# Altium footprint library CONN_TBLOCK_5P0_A.PcbLib: 45 footprints (part 1 of 3)
Each footprint in its own frame and in the unit in brackets; x right, y up, seen from the top. Pads: shape width x height; smd on the part's side, far side on the other; paste and mask are expansions set on the pad; w line width, h text height; cw(c..) or ccw(c..) is an arc to the next point about the centre after c.
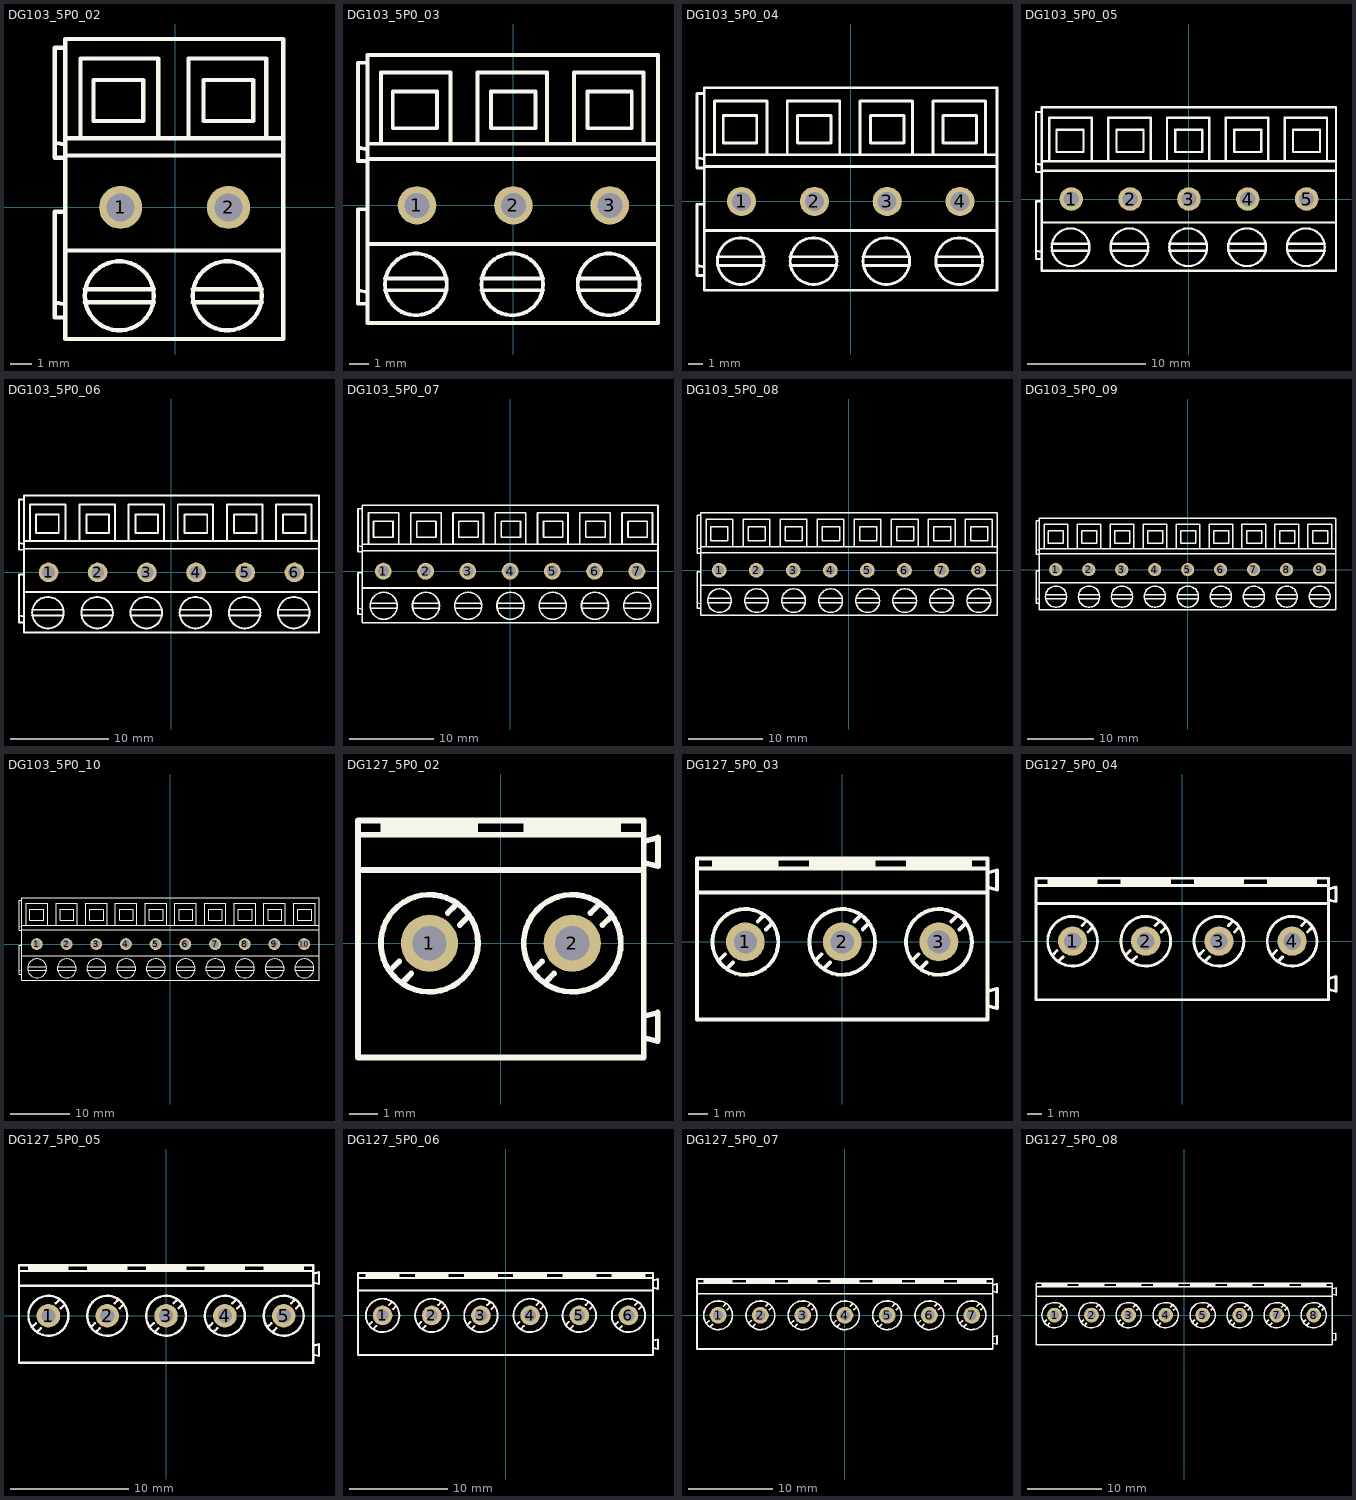
[diagram p0: the footprints below, top view; thin cyan lines are the x and y axes]

## DG103_5P0_02 [mm] "Terminal Block 45° Screw, Pitch 5mm, L15mm"
height 15
pads (2):
  round 2 / inner round 2 / far side rect 2.4x3 hole 1.3: 1(-2.54,0)
  round 2 / inner round 2 / far side oval 2.4x3 hole 1.3: 2(2.46,0)
Top Overlay:
  circle w0.2: c2.4,-4.1 r1.6
  circle w0.2: c-2.6,-4.1 r1.6
  lines w0.2: -5.6,-4.4 -5.1,-4.5 ; -5.6,3 -5.1,2.9 ; -5.1,-5.1 -5.6,-5.1 -5.6,-0.2 -5.1,-0.2 ; -5.1,-2 5,-2 ; -5.1,2.3 -5.6,2.3 -5.6,7.4 -5.1,7.4 ; -5.1,2.4 5,2.4 ; -5.1,3.2 5,3.2 ; -4.4,3.2 -4.4,6.9 -0.8,6.9 -0.8,3.2 ; -4.2,-4.4 -1,-4.4 ; -4.2,-3.8 -1,-3.8 ; 0.6,3.2 0.6,6.9 4.2,6.9 4.2,3.2 ; 0.8,-4.4 4,-4.4 ; 0.8,-3.8 4,-3.8 ; -5.1,-6.1 5,-6.1 5,7.8 -5.1,7.8 -5.1,-6.1 ; -3.8,4 -3.8,5.9 -1.5,5.9 -1.5,4 -3.8,4 ; 1.3,4 3.6,4 3.6,5.9 1.3,5.9 1.3,4
3D body "DG103-5.0-02.stp": height 15.5, standoff -3.5, extent -5.61,-6 4.94,7.8

## DG103_5P0_03 [mm] "Terminal Block 45° Screw, Pitch 5mm, L15mm"
height 15
pads (3):
  round 2 / inner round 2 / far side rect 2.4x3 hole 1.3: 1(-5,0)
  round 2 / inner round 2 / far side oval 2.4x3 hole 1.3: 2(0,0) 3(5,0)
Top Overlay:
  circle w0.2: c-5.06,-4.1 r1.6
  circle w0.2: c-0.06,-4.1 r1.6
  circle w0.2: c4.94,-4.1 r1.6
  lines w0.2: -8.06,-4.4 -7.56,-4.5 ; -8.06,3 -7.56,2.9 ; -7.56,-5.1 -8.06,-5.1 -8.06,-0.2 -7.56,-0.2 ; -7.56,-2 7.5,-2 ; -7.56,2.3 -8.06,2.3 -8.06,7.4 -7.56,7.4 ; -7.56,2.4 7.5,2.4 ; -7.56,3.2 7.5,3.2 ; -6.86,3.2 -6.86,6.9 -3.26,6.9 -3.26,3.2 ; -6.66,-4.4 -3.46,-4.4 ; -6.66,-3.8 -3.46,-3.8 ; -1.86,3.2 -1.86,6.9 1.74,6.9 1.74,3.2 ; -1.66,-4.4 1.54,-4.4 ; -1.66,-3.8 1.54,-3.8 ; 3.14,3.2 3.14,6.9 6.74,6.9 6.74,3.2 ; 3.34,-4.4 6.54,-4.4 ; 3.34,-3.8 6.54,-3.8 ; -7.56,-6.1 -7.56,7.8 7.5,7.8 7.5,-6.1 -7.56,-6.1 ; -6.26,4 -3.96,4 -3.96,5.9 -6.26,5.9 -6.26,4 ; -1.16,4 -1.16,5.9 1.14,5.9 1.14,4 -1.16,4 ; 3.84,4 3.84,5.9 6.14,5.9 6.14,4 3.84,4
3D body "DG103-5.0-03.stp": height 15.5, standoff -3.5, extent -8.04,-6 7.51,7.8

## DG103_5P0_04 [mm] "Terminal Block 45° Screw, Pitch 5mm, L15mm"
height 15
pads (4):
  round 2 / inner round 2 / far side rect 2.4x3 hole 1.3: 1(-7.5,0)
  round 2 / inner round 2 / far side oval 2.4x3 hole 1.3: 2(-2.5,0) 3(2.5,0) 4(7.5,0)
Top Overlay:
  circle w0.2: c-7.56,-4.1 r1.6
  circle w0.2: c-2.56,-4.1 r1.6
  circle w0.2: c2.44,-4.1 r1.6
  circle w0.2: c7.44,-4.1 r1.6
  lines w0.2: -10.56,-4.4 -10.06,-4.5 ; -10.56,3 -10.06,2.9 ; -10.06,-5.1 -10.56,-5.1 -10.56,-0.2 -10.06,-0.2 ; -10.06,-2 10.04,-2 ; -10.06,2.3 -10.56,2.3 -10.56,7.4 -10.06,7.4 ; -10.06,2.4 10.04,2.4 ; -10.06,3.2 10.04,3.2 ; -9.36,3.2 -9.36,6.9 -5.76,6.9 -5.76,3.2 ; -9.16,-4.4 -5.96,-4.4 ; -9.16,-3.8 -5.96,-3.8 ; -4.36,3.2 -4.36,6.9 -0.76,6.9 -0.76,3.2 ; -4.16,-4.4 -0.96,-4.4 ; -4.16,-3.8 -0.96,-3.8 ; 0.64,3.2 0.64,6.9 4.24,6.9 4.24,3.2 ; 0.84,-4.4 4.04,-4.4 ; 0.84,-3.8 4.04,-3.8 ; 5.64,3.2 5.64,6.9 9.24,6.9 9.24,3.2 ; 5.84,-4.4 9.04,-4.4 ; 5.84,-3.8 9.04,-3.8 ; -10.06,-6.1 -10.06,7.8 10.04,7.8 10.04,-6.1 -10.06,-6.1 ; -8.76,4 -6.46,4 -6.46,5.9 -8.76,5.9 -8.76,4 ; -3.66,4 -3.66,5.9 -1.36,5.9 -1.36,4 -3.66,4 ; 1.34,4 1.34,5.9 3.64,5.9 3.64,4 1.34,4 ; 6.34,4 6.34,5.9 8.64,5.9 8.64,4 6.34,4
3D body "DG103-5.0-04.stp": height 15.5, standoff -3.5, extent -10.56,-6 9.99,7.8

## DG103_5P0_05 [mm] "Terminal Block 45° Screw, Pitch 5mm, L15mm"
height 15
pads (5):
  round 2 / inner round 2 / far side rect 2.4x3 hole 1.3: 1(-10,0)
  round 2 / inner round 2 / far side oval 2.4x3 hole 1.3: 2(-5,0) 3(0,0) 4(5,0) 5(10,0)
Top Overlay:
  circle w0.2: c-10.06,-4.1 r1.6
  circle w0.2: c-5.06,-4.1 r1.6
  circle w0.2: c-0.06,-4.1 r1.6
  circle w0.2: c4.94,-4.1 r1.6
  circle w0.2: c9.94,-4.1 r1.6
  lines w0.2: -13,-4.4 -12.5,-4.5 ; -13,3 -12.5,2.9 ; -12.5,-5.1 -13,-5.1 -13,-0.2 -12.5,-0.2 ; -12.5,-2 12.5,-2 ; -12.5,2.3 -13,2.3 -13,7.4 -12.5,7.4 ; -12.5,2.4 12.5,2.4 ; -12.5,3.2 12.5,3.2 ; -11.86,3.2 -11.86,6.9 -8.26,6.9 -8.26,3.2 ; -11.66,-4.4 -8.46,-4.4 ; -11.66,-3.8 -8.46,-3.8 ; -6.86,3.2 -6.86,6.9 -3.26,6.9 -3.26,3.2 ; -6.66,-4.4 -3.46,-4.4 ; -6.66,-3.8 -3.46,-3.8 ; -1.86,3.2 -1.86,6.9 1.74,6.9 1.74,3.2 ; -1.66,-4.4 1.54,-4.4 ; -1.66,-3.8 1.54,-3.8 ; 3.14,3.2 3.14,6.9 6.74,6.9 6.74,3.2 ; 3.34,-4.4 6.54,-4.4 ; 3.34,-3.8 6.54,-3.8 ; 8.14,3.2 8.14,6.9 11.74,6.9 11.74,3.2 ; 8.34,-4.4 11.54,-4.4 ; 8.34,-3.8 11.54,-3.8 ; -12.5,-6.1 -12.5,7.8 12.5,7.8 12.5,-6.1 -12.5,-6.1 ; -11.26,4 -8.96,4 -8.96,5.9 -11.26,5.9 -11.26,4 ; -6.16,4 -6.16,5.9 -3.86,5.9 -3.86,4 -6.16,4 ; -1.16,4 -1.16,5.9 1.14,5.9 1.14,4 -1.16,4 ; 3.84,4 3.84,5.9 6.14,5.9 6.14,4 3.84,4 ; 8.84,4 8.84,5.9 11.14,5.9 11.14,4 8.84,4
3D body "DG103-5.0-05.stp": height 15.5, standoff -3.5, extent -13.08,-6 12.47,7.8

## DG103_5P0_06 [mm] "Terminal Block 45° Screw, Pitch 5mm, L15mm"
height 15
pads (6):
  round 2 / inner round 2 / far side rect 2.4x3 hole 1.3: 1(-12.5,0)
  round 2 / inner round 2 / far side oval 2.4x3 hole 1.3: 2(-7.5,0) 3(-2.5,0) 4(2.5,0) 5(7.5,0) 6(12.5,0)
Top Overlay:
  circle w0.2: c-12.56,-4.1 r1.6
  circle w0.2: c-7.56,-4.1 r1.6
  circle w0.2: c-2.56,-4.1 r1.6
  circle w0.2: c2.44,-4.1 r1.6
  circle w0.2: c7.44,-4.1 r1.6
  circle w0.2: c12.44,-4.1 r1.6
  lines w0.2: -15.5,-4.4 -15,-4.5 ; -15.5,3 -15,2.9 ; -15,-5.1 -15.5,-5.1 -15.5,-0.2 -15,-0.2 ; -15,-2 15,-2 ; -15,2.3 -15.5,2.3 -15.5,7.4 -15,7.4 ; -15,2.4 15,2.4 ; -15,3.2 15,3.2 ; -14.36,3.2 -14.36,6.9 -10.76,6.9 -10.76,3.2 ; -14.16,-4.4 -10.96,-4.4 ; -14.16,-3.8 -10.96,-3.8 ; -9.36,3.2 -9.36,6.9 -5.76,6.9 -5.76,3.2 ; -9.16,-4.4 -5.96,-4.4 ; -9.16,-3.8 -5.96,-3.8 ; -4.36,3.2 -4.36,6.9 -0.76,6.9 -0.76,3.2 ; -4.16,-4.4 -0.96,-4.4 ; -4.16,-3.8 -0.96,-3.8 ; 0.64,3.2 0.64,6.9 4.24,6.9 4.24,3.2 ; 0.84,-4.4 4.04,-4.4 ; 0.84,-3.8 4.04,-3.8 ; 5.64,3.2 5.64,6.9 9.24,6.9 9.24,3.2 ; 5.84,-4.4 9.04,-4.4 ; 5.84,-3.8 9.04,-3.8 ; 10.64,3.2 10.64,6.9 14.24,6.9 14.24,3.2 ; 10.84,-4.4 14.04,-4.4 ; 10.84,-3.8 14.04,-3.8 ; -15,-6.1 -15,7.8 15,7.8 15,-6.1 -15,-6.1 ; -13.76,4 -13.76,5.9 -11.46,5.9 -11.46,4 -13.76,4 ; -8.66,4 -6.36,4 -6.36,5.9 -8.66,5.9 -8.66,4 ; -3.66,4 -1.36,4 -1.36,5.9 -3.66,5.9 -3.66,4 ; 1.34,4 1.34,5.9 3.64,5.9 3.64,4 1.34,4 ; 6.34,4 6.34,5.9 8.64,5.9 8.64,4 6.34,4 ; 11.34,4 13.64,4 13.64,5.9 11.34,5.9 11.34,4
3D body "DG103-5.0-06.stp": height 15.5, standoff -3.5, extent -15.575,-6 14.975,7.8

## DG103_5P0_07 [mm] "Terminal Block 45° Screw, Pitch 5mm, L15mm"
height 15
pads (7):
  round 2 / inner round 2 / far side rect 2.4x3 hole 1.3: 1(-15,0)
  round 2 / inner round 2 / far side oval 2.4x3 hole 1.3: 2(-10,0) 3(-5,0) 4(0,0) 5(5,0) 6(10,0) 7(15,0)
Top Overlay:
  circle w0.2: c15.04,-4.1 r1.6
  circle w0.2: c10.04,-4.1 r1.6
  circle w0.2: c5.04,-4.1 r1.6
  circle w0.2: c0.04,-4.1 r1.6
  circle w0.2: c-4.96,-4.1 r1.6
  circle w0.2: c-14.96,-4.1 r1.6
  circle w0.2: c-9.96,-4.1 r1.6
  lines w0.2: -18,-4.4 -17.5,-4.5 ; -18,3 -17.5,2.9 ; -17.5,-5.1 -18,-5.1 -18,-0.2 -17.5,-0.2 ; -17.5,-2 17.5,-2 ; -17.5,2.3 -18,2.3 -18,7.4 -17.5,7.4 ; -17.5,2.4 17.5,2.4 ; -17.5,3.2 17.5,3.2 ; -16.76,3.2 -16.76,6.9 -13.16,6.9 -13.16,3.2 ; -16.56,-4.4 -13.36,-4.4 ; -16.56,-3.8 -13.36,-3.8 ; -11.76,3.2 -11.76,6.9 -8.16,6.9 -8.16,3.2 ; -11.56,-4.4 -8.36,-4.4 ; -11.56,-3.8 -8.36,-3.8 ; -6.76,3.2 -6.76,6.9 -3.16,6.9 -3.16,3.2 ; -6.56,-4.4 -3.36,-4.4 ; -6.56,-3.8 -3.36,-3.8 ; -1.76,3.2 -1.76,6.9 1.84,6.9 1.84,3.2 ; -1.56,-4.4 1.64,-4.4 ; -1.56,-3.8 1.64,-3.8 ; 3.24,3.2 3.24,6.9 6.84,6.9 6.84,3.2 ; 3.44,-4.4 6.64,-4.4 ; 3.44,-3.8 6.64,-3.8 ; 8.24,3.2 8.24,6.9 11.84,6.9 11.84,3.2 ; 8.44,-4.4 11.64,-4.4 ; 8.44,-3.8 11.64,-3.8 ; 13.24,3.2 13.24,6.9 16.84,6.9 16.84,3.2 ; 13.44,-4.4 16.64,-4.4 ; 13.44,-3.8 16.64,-3.8 ; -17.5,-6.1 -17.5,7.8 17.5,7.8 17.5,-6.1 -17.5,-6.1 ; -16.16,4 -13.86,4 -13.86,5.9 -16.16,5.9 -16.16,4 ; -11.06,4 -11.06,5.9 -8.76,5.9 -8.76,4 -11.06,4 ; -6.06,4 -6.06,5.9 -3.76,5.9 -3.76,4 -6.06,4 ; -1.06,4 -1.06,5.9 1.24,5.9 1.24,4 -1.06,4 ; 3.94,4 3.94,5.9 6.24,5.9 6.24,4 3.94,4 ; 8.94,4 8.94,5.9 11.24,5.9 11.24,4 8.94,4 ; 13.94,4 13.94,5.9 16.24,5.9 16.24,4 13.94,4
3D body "DG103-5.0-07.stp": height 15.5, standoff -3.5, extent -18.07,-6 17.48,7.8

## DG103_5P0_08 [mm] "Terminal Block 45° Screw, Pitch 5mm, L15mm"
height 15
pads (8):
  round 2 / inner round 2 / far side rect 2.4x3 hole 1.3: 1(-17.5,0)
  round 2 / inner round 2 / far side oval 2.4x3 hole 1.3: 2(-12.5,0) 3(-7.5,0) 4(-2.5,0) 5(2.5,0) 6(7.5,0) 7(12.5,0) 8(17.5,0)
Top Overlay:
  circle w0.2: c-12.46,-4.1 r1.6
  circle w0.2: c-17.46,-4.1 r1.6
  circle w0.2: c-7.46,-4.1 r1.6
  circle w0.2: c-2.46,-4.1 r1.6
  circle w0.2: c2.54,-4.1 r1.6
  circle w0.2: c7.54,-4.1 r1.6
  circle w0.2: c12.54,-4.1 r1.6
  circle w0.2: c17.54,-4.1 r1.6
  lines w0.2: -20.5,-4.4 -20,-4.5 ; -20.5,3 -20,2.9 ; -20,-5.1 -20.5,-5.1 -20.5,-0.2 -20,-0.2 ; -20,-2 20,-2 ; -20,2.3 -20.5,2.3 -20.5,7.4 -20,7.4 ; -20,2.4 20,2.4 ; -20,3.2 20,3.2 ; -19.26,3.2 -19.26,6.9 -15.66,6.9 -15.66,3.2 ; -19.06,-4.4 -15.86,-4.4 ; -19.06,-3.8 -15.86,-3.8 ; -14.26,3.2 -14.26,6.9 -10.66,6.9 -10.66,3.2 ; -14.06,-4.4 -10.86,-4.4 ; -14.06,-3.8 -10.86,-3.8 ; -9.26,3.2 -9.26,6.9 -5.66,6.9 -5.66,3.2 ; -9.06,-4.4 -5.86,-4.4 ; -9.06,-3.8 -5.86,-3.8 ; -4.26,3.2 -4.26,6.9 -0.66,6.9 -0.66,3.2 ; -4.06,-4.4 -0.86,-4.4 ; -4.06,-3.8 -0.86,-3.8 ; 0.74,3.2 0.74,6.9 4.34,6.9 4.34,3.2 ; 0.94,-4.4 4.14,-4.4 ; 0.94,-3.8 4.14,-3.8 ; 5.74,3.2 5.74,6.9 9.34,6.9 9.34,3.2 ; 5.94,-4.4 9.14,-4.4 ; 5.94,-3.8 9.14,-3.8 ; 10.74,3.2 10.74,6.9 14.34,6.9 14.34,3.2 ; 10.94,-4.4 14.14,-4.4 ; 10.94,-3.8 14.14,-3.8 ; 15.74,3.2 15.74,6.9 19.34,6.9 19.34,3.2 ; 15.94,-4.4 19.14,-4.4 ; 15.94,-3.8 19.14,-3.8 ; -20,-6.1 20,-6.1 20,7.8 -20,7.8 -20,-6.1 ; -18.66,4 -18.66,5.9 -16.36,5.9 -16.36,4 -18.66,4 ; -13.56,4 -11.26,4 -11.26,5.9 -13.56,5.9 -13.56,4 ; -8.56,4 -6.26,4 -6.26,5.9 -8.56,5.9 -8.56,4 ; -3.56,4 -1.26,4 -1.26,5.9 -3.56,5.9 -3.56,4 ; 1.44,4 3.74,4 3.74,5.9 1.44,5.9 1.44,4 ; 6.44,4 8.74,4 8.74,5.9 6.44,5.9 6.44,4 ; 11.44,4 13.74,4 13.74,5.9 11.44,5.9 11.44,4 ; 16.44,4 18.74,4 18.74,5.9 16.44,5.9 16.44,4
3D body "DG103-5.0-08.stp": height 15.5, standoff -3.5, extent -20.54,-6 20.01,7.8

## DG103_5P0_09 [mm] "Terminal Block 45° Screw, Pitch 5mm, L15mm"
height 15
pads (9):
  round 2 / inner round 2 / far side rect 2.4x3 hole 1.3: 1(-20,0)
  round 2 / inner round 2 / far side oval 2.4x3 hole 1.3: 2(-15,0) 3(-10,0) 4(-5,0) 5(0,0) 6(5,0) 7(10,0) 8(15,0) 9(20,0)
Top Overlay:
  circle w0.2: c-14.96,-4.1 r1.6
  circle w0.2: c-19.96,-4.1 r1.6
  circle w0.2: c-9.96,-4.1 r1.6
  circle w0.2: c-4.96,-4.1 r1.6
  circle w0.2: c0.04,-4.1 r1.6
  circle w0.2: c5.04,-4.1 r1.6
  circle w0.2: c10.04,-4.1 r1.6
  circle w0.2: c15.04,-4.1 r1.6
  circle w0.2: c20.04,-4.1 r1.6
  lines w0.2: -23,-4.4 -22.5,-4.5 ; -23,3 -22.5,2.9 ; -22.5,-5.1 -23,-5.1 -23,-0.2 -22.5,-0.2 ; -22.5,-2 22.5,-2 ; -22.5,2.3 -23,2.3 -23,7.4 -22.5,7.4 ; -22.5,2.4 22.5,2.4 ; -22.5,3.2 22.5,3.2 ; -21.76,3.2 -21.76,6.9 -18.16,6.9 -18.16,3.2 ; -21.56,-4.4 -18.36,-4.4 ; -21.56,-3.8 -18.36,-3.8 ; -16.76,3.2 -16.76,6.9 -13.16,6.9 -13.16,3.2 ; -16.56,-4.4 -13.36,-4.4 ; -16.56,-3.8 -13.36,-3.8 ; -11.76,3.2 -11.76,6.9 -8.16,6.9 -8.16,3.2 ; -11.56,-4.4 -8.36,-4.4 ; -11.56,-3.8 -8.36,-3.8 ; -6.76,3.2 -6.76,6.9 -3.16,6.9 -3.16,3.2 ; -6.56,-4.4 -3.36,-4.4 ; -6.56,-3.8 -3.36,-3.8 ; -1.76,3.2 -1.76,6.9 1.84,6.9 1.84,3.2 ; -1.56,-4.4 1.64,-4.4 ; -1.56,-3.8 1.64,-3.8 ; 3.24,3.2 3.24,6.9 6.84,6.9 6.84,3.2 ; 3.44,-4.4 6.64,-4.4 ; 3.44,-3.8 6.64,-3.8 ; 8.24,3.2 8.24,6.9 11.84,6.9 11.84,3.2 ; 8.44,-4.4 11.64,-4.4 ; 8.44,-3.8 11.64,-3.8 ; 13.24,3.2 13.24,6.9 16.84,6.9 16.84,3.2 ; 13.44,-4.4 16.64,-4.4 ; 13.44,-3.8 16.64,-3.8 ; 18.24,3.2 18.24,6.9 21.84,6.9 21.84,3.2 ; 18.44,-4.4 21.64,-4.4 ; 18.44,-3.8 21.64,-3.8 ; -22.5,-6.1 22.5,-6.1 22.5,7.8 -22.5,7.8 -22.5,-6.1 ; -21.16,4 -21.16,5.9 -18.86,5.9 -18.86,4 -21.16,4 ; -16.06,4 -13.76,4 -13.76,5.9 -16.06,5.9 -16.06,4 ; -11.06,4 -8.76,4 -8.76,5.9 -11.06,5.9 -11.06,4 ; -6.06,4 -3.76,4 -3.76,5.9 -6.06,5.9 -6.06,4 ; -1.06,4 1.24,4 1.24,5.9 -1.06,5.9 -1.06,4 ; 3.94,4 6.24,4 6.24,5.9 3.94,5.9 3.94,4 ; 8.94,4 11.24,4 11.24,5.9 8.94,5.9 8.94,4 ; 13.94,4 16.24,4 16.24,5.9 13.94,5.9 13.94,4 ; 18.94,4 21.24,4 21.24,5.9 18.94,5.9 18.94,4
3D body "DG103-5.0-09.stp": height 15.5, standoff -3.5, extent -23.045,-6 22.505,7.8

## DG103_5P0_10 [mm] "Terminal Block 45° Screw, Pitch 5mm, L15mm"
height 15
pads (10):
  round 2 / inner round 2 / far side rect 2.4x3 hole 1.3: 1(-22.5,0)
  round 2 / inner round 2 / far side oval 2.4x3 hole 1.3: 2(-17.5,0) 3(-12.5,0) 4(-7.5,0) 5(-2.5,0) 6(2.5,0) 7(7.5,0) 8(12.5,0) 9(17.5,0) 10(22.5,0)
Top Overlay:
  circle w0.2: c-17.46,-4.1 r1.6
  circle w0.2: c-22.46,-4.1 r1.6
  circle w0.2: c22.54,-4.1 r1.6
  circle w0.2: c17.54,-4.1 r1.6
  circle w0.2: c12.54,-4.1 r1.6
  circle w0.2: c7.54,-4.1 r1.6
  circle w0.2: c2.54,-4.1 r1.6
  circle w0.2: c-2.46,-4.1 r1.6
  circle w0.2: c-7.46,-4.1 r1.6
  circle w0.2: c-12.46,-4.1 r1.6
  lines w0.2: -25.5,-4.4 -25,-4.5 ; -25.5,3 -25,2.9 ; -25,-5.1 -25.5,-5.1 -25.5,-0.2 -25,-0.2 ; -25,-2 25,-2 ; -25,2.3 -25.5,2.3 -25.5,7.4 -25,7.4 ; -25,2.4 25,2.4 ; -25,3.2 25,3.2 ; -24.26,3.2 -24.26,6.9 -20.66,6.9 -20.66,3.2 ; -24.06,-4.4 -20.86,-4.4 ; -24.06,-3.8 -20.86,-3.8 ; -19.26,3.2 -19.26,6.9 -15.66,6.9 -15.66,3.2 ; -19.06,-4.4 -15.86,-4.4 ; -19.06,-3.8 -15.86,-3.8 ; -14.26,3.2 -14.26,6.9 -10.66,6.9 -10.66,3.2 ; -14.06,-4.4 -10.86,-4.4 ; -14.06,-3.8 -10.86,-3.8 ; -9.26,3.2 -9.26,6.9 -5.66,6.9 -5.66,3.2 ; -9.06,-4.4 -5.86,-4.4 ; -9.06,-3.8 -5.86,-3.8 ; -4.26,3.2 -4.26,6.9 -0.66,6.9 -0.66,3.2 ; -4.06,-4.4 -0.86,-4.4 ; -4.06,-3.8 -0.86,-3.8 ; 0.74,3.2 0.74,6.9 4.34,6.9 4.34,3.2 ; 0.94,-4.4 4.14,-4.4 ; 0.94,-3.8 4.14,-3.8 ; 5.74,3.2 5.74,6.9 9.34,6.9 9.34,3.2 ; 5.94,-4.4 9.14,-4.4 ; 5.94,-3.8 9.14,-3.8 ; 10.74,3.2 10.74,6.9 14.34,6.9 14.34,3.2 ; 10.94,-4.4 14.14,-4.4 ; 10.94,-3.8 14.14,-3.8 ; 15.74,3.2 15.74,6.9 19.34,6.9 19.34,3.2 ; 15.94,-4.4 19.14,-4.4 ; 15.94,-3.8 19.14,-3.8 ; 20.74,3.2 20.74,6.9 24.34,6.9 24.34,3.2 ; 20.94,-4.4 24.14,-4.4 ; 20.94,-3.8 24.14,-3.8 ; -25,-6.1 25,-6.1 25,7.8 -25,7.8 -25,-6.1 ; -23.66,4 -23.66,5.9 -21.36,5.9 -21.36,4 -23.66,4 ; -18.56,4 -16.26,4 -16.26,5.9 -18.56,5.9 -18.56,4 ; -13.56,4 -13.56,5.9 -11.26,5.9 -11.26,4 -13.56,4 ; -8.56,4 -8.56,5.9 -6.26,5.9 -6.26,4 -8.56,4 ; -3.56,4 -3.56,5.9 -1.26,5.9 -1.26,4 -3.56,4 ; 1.44,4 1.44,5.9 3.74,5.9 3.74,4 1.44,4 ; 6.44,4 6.44,5.9 8.74,5.9 8.74,4 6.44,4 ; 11.44,4 11.44,5.9 13.74,5.9 13.74,4 11.44,4 ; 16.44,4 16.44,5.9 18.74,5.9 18.74,4 16.44,4 ; 21.44,4 21.44,5.9 23.74,5.9 23.74,4 21.44,4
3D body "DG103-5.0-10.stp": height 15.5, standoff -3.5, extent -25.55,-6 25,7.8

## DG127_5P0_02 [mm] "Terminal Block Screw, Pitch 5mm, H10mm, DG127-5.0-xxP"
height 10
pads (2):
  round 2 / inner round 2 / far side rect 2.4x3 hole 1.2: 1(-2.5,0)
  round 2 / inner round 2 / far side oval 2.4x3 hole 1.2: 2(2.5,0)
Top Overlay:
  circle w0.2: c-2.5,0 r1.7
  circle w0.2: c2.5,0 r1.7
  region: -4.2,3.8 -4.2,4.3 -0.8,4.3 -0.8,3.8
  region: 4.2,3.8 4.2,4.3 0.8,4.3 0.8,3.8
  lines w0.2: -5,2.562 5,2.562 ; -5,3.8 5,3.8 ; -3.843,-0.919 -3.561,-0.636 ; -3.419,-1.344 -3.136,-1.061 ; -1.864,1.061 -1.581,1.343 ; -1.439,0.636 -1.156,0.919 ; 1.156,-0.919 1.439,-0.636 ; 1.581,-1.344 1.864,-1.061 ; 3.136,1.061 3.419,1.343 ; 3.561,0.636 3.843,0.919 ; 5,-3.3 5.494,-3.424 5.494,-2.424 5,-2.547 ; 5.006,2.824 5.5,2.7 5.5,3.7 5.006,3.576 ; -5,-4 -5,4.3 5,4.3 5,-4 -5,-4
3D body "DG127-5.0-02P-14.stp": height 10.2, standoff -3.6, extent -5,-3.9 5.5,4.2

## DG127_5P0_03 [mm] "Terminal Block Screw, Pitch 5mm, H10mm, DG127-5.0-xxP"
height 10
pads (3):
  round 2 / inner round 2 / far side rect 2.4x3 hole 1.2: 1(-5,0)
  round 2 / inner round 2 / far side oval 2.4x3 hole 1.2: 2(0,0) 3(5,0)
Top Overlay:
  circle w0.2: c5,0 r1.7
  circle w0.2: c0,0 r1.7
  circle w0.2: c-5,0 r1.7
  region: -6.7,3.8 -6.7,4.3 -3.3,4.3 -3.3,3.8
  region: -1.7,3.8 -1.7,4.3 1.7,4.3 1.7,3.8
  region: 3.3,3.8 3.3,4.3 6.7,4.3 6.7,3.8
  lines w0.2: -7.5,2.562 7.5,2.562 ; -7.5,3.8 7.5,3.8 ; -6.343,-0.919 -6.061,-0.636 ; -5.919,-1.344 -5.636,-1.061 ; -4.364,1.061 -4.081,1.343 ; -3.939,0.636 -3.656,0.919 ; -1.344,-0.919 -1.061,-0.636 ; -0.919,-1.344 -0.636,-1.061 ; 0.636,1.061 0.919,1.343 ; 1.061,0.636 1.343,0.919 ; 3.656,-0.919 3.939,-0.636 ; 4.081,-1.344 4.364,-1.061 ; 5.636,1.061 5.919,1.343 ; 6.061,0.636 6.343,0.919 ; 7.5,-3.3 7.994,-3.424 7.994,-2.424 7.5,-2.547 ; 7.506,2.824 8,2.7 8,3.7 7.506,3.576 ; -7.5,-4 7.5,-4 7.5,4.3 -7.5,4.3 -7.5,-4
3D body "DG127-5.0-03P-14.stp": height 10.1, standoff -3.7, extent -7.5,-3.9 8,4.2

## DG127_5P0_04 [mm] "Terminal Block Screw, Pitch 5mm, H10mm, DG127-5.0-xxP"
height 10
pads (4):
  round 2 / inner round 2 / far side rect 2.4x3 hole 1.2: 1(-7.5,0)
  round 2 / inner round 2 / far side oval 2.4x3 hole 1.2: 2(-2.5,0) 3(2.5,0) 4(7.5,0)
Top Overlay:
  circle w0.2: c-7.5,0 r1.7
  circle w0.2: c-2.5,0 r1.7
  circle w0.2: c7.5,0 r1.7
  circle w0.2: c2.5,0 r1.7
  region: 5.8,3.8 5.8,4.3 9.2,4.3 9.2,3.8
  region: 0.8,3.8 0.8,4.3 4.2,4.3 4.2,3.8
  region: -4.2,3.8 -4.2,4.3 -0.8,4.3 -0.8,3.8
  region: -9.2,3.8 -9.2,4.3 -5.8,4.3 -5.8,3.8
  lines w0.2: -10,2.562 10,2.562 ; -10,3.8 10,3.8 ; -8.843,-0.919 -8.561,-0.636 ; -8.419,-1.344 -8.136,-1.061 ; -6.864,1.061 -6.581,1.343 ; -6.439,0.636 -6.156,0.919 ; -3.843,-0.919 -3.561,-0.636 ; -3.419,-1.344 -3.136,-1.061 ; -1.864,1.061 -1.581,1.343 ; -1.439,0.636 -1.156,0.919 ; 1.156,-0.919 1.439,-0.636 ; 1.581,-1.344 1.864,-1.061 ; 3.136,1.061 3.419,1.343 ; 3.561,0.636 3.843,0.919 ; 6.156,-0.919 6.439,-0.636 ; 6.581,-1.344 6.863,-1.061 ; 8.136,1.061 8.419,1.343 ; 8.561,0.636 8.843,0.919 ; 10,-3.3 10.494,-3.424 10.494,-2.424 10,-2.547 ; 10.006,2.824 10.5,2.7 10.5,3.7 10.006,3.576 ; -10,-4 -10,4.3 10,4.3 10,-4 -10,-4
3D body "DG127-5.0-04P-14.stp": height 10.1, standoff -3.7, extent -10,-3.9 10.5,4.2

## DG127_5P0_05 [mm] "Terminal Block Screw, Pitch 5mm, H10mm, DG127-5.0-xxP"
height 10
pads (5):
  round 2 / inner round 2 / far side rect 2.4x3 hole 1.2: 1(-10,0)
  round 2 / inner round 2 / far side oval 2.4x3 hole 1.2: 2(-5,0) 3(0,0) 4(5,0) 5(10,0)
Top Overlay:
  circle w0.2: c10,0 r1.7
  circle w0.2: c0,0 r1.7
  circle w0.2: c5,0 r1.7
  circle w0.2: c-5,0 r1.7
  circle w0.2: c-10,0 r1.7
  region: -11.7,3.8 -11.7,4.3 -8.3,4.3 -8.3,3.8
  region: -6.7,3.8 -6.7,4.3 -3.3,4.3 -3.3,3.8
  region: -1.7,3.8 -1.7,4.3 1.7,4.3 1.7,3.8
  region: 3.3,3.8 3.3,4.3 6.7,4.3 6.7,3.8
  region: 8.3,3.8 8.3,4.3 11.7,4.3 11.7,3.8
  lines w0.2: -12.5,2.562 12.5,2.562 ; -12.5,3.8 12.5,3.8 ; -11.343,-0.919 -11.061,-0.636 ; -10.919,-1.344 -10.636,-1.061 ; -9.364,1.061 -9.081,1.343 ; -8.939,0.636 -8.656,0.919 ; -6.343,-0.919 -6.061,-0.636 ; -5.919,-1.344 -5.636,-1.061 ; -4.364,1.061 -4.081,1.343 ; -3.939,0.636 -3.656,0.919 ; -1.344,-0.919 -1.061,-0.636 ; -0.919,-1.344 -0.636,-1.061 ; 0.636,1.061 0.919,1.343 ; 1.061,0.636 1.343,0.919 ; 3.656,-0.919 3.939,-0.636 ; 4.081,-1.344 4.364,-1.061 ; 5.636,1.061 5.919,1.343 ; 6.061,0.636 6.343,0.919 ; 8.656,-0.919 8.939,-0.636 ; 9.081,-1.344 9.363,-1.061 ; 10.636,1.061 10.919,1.343 ; 11.061,0.636 11.343,0.919 ; 12.5,-3.3 12.994,-3.424 12.994,-2.424 12.5,-2.547 ; 12.506,2.824 13,2.7 13,3.7 12.506,3.576 ; -12.5,-4 12.5,-4 12.5,4.3 -12.5,4.3 -12.5,-4
3D body "DG127-5.0-05P-14.stp": height 10.1, standoff -3.7, extent -12.5,-3.9 13,4.2

## DG127_5P0_06 [mm] "Terminal Block Screw, Pitch 5mm, H10mm, DG127-5.0-xxP"
height 10
pads (6):
  round 2 / inner round 2 / far side rect 2.4x3 hole 1.2: 1(-12.5,0)
  round 2 / inner round 2 / far side oval 2.4x3 hole 1.2: 2(-7.5,0) 3(-2.5,0) 4(2.5,0) 5(7.5,0) 6(12.5,0)
Top Overlay:
  circle w0.2: c7.5,0 r1.7
  circle w0.2: c12.5,0 r1.7
  circle w0.2: c-2.5,0 r1.7
  circle w0.2: c2.5,0 r1.7
  circle w0.2: c-7.5,0 r1.7
  circle w0.2: c-12.5,0 r1.7
  region: -14.2,3.8 -14.2,4.3 -10.8,4.3 -10.8,3.8
  region: -9.2,3.8 -9.2,4.3 -5.8,4.3 -5.8,3.8
  region: -4.2,3.8 -4.2,4.3 -0.8,4.3 -0.8,3.8
  region: 0.8,3.8 0.8,4.3 4.2,4.3 4.2,3.8
  region: 5.8,3.8 5.8,4.3 9.2,4.3 9.2,3.8
  region: 10.8,3.8 10.8,4.3 14.2,4.3 14.2,3.8
  lines w0.2: -15,2.562 15,2.562 ; -15,3.8 15,3.8 ; -13.843,-0.919 -13.561,-0.636 ; -13.419,-1.344 -13.136,-1.061 ; -11.863,1.061 -11.581,1.343 ; -11.439,0.636 -11.156,0.919 ; -8.843,-0.919 -8.561,-0.636 ; -8.419,-1.344 -8.136,-1.061 ; -6.864,1.061 -6.581,1.343 ; -6.439,0.636 -6.156,0.919 ; -3.843,-0.919 -3.561,-0.636 ; -3.419,-1.344 -3.136,-1.061 ; -1.864,1.061 -1.581,1.343 ; -1.439,0.636 -1.156,0.919 ; 1.156,-0.919 1.439,-0.636 ; 1.581,-1.344 1.864,-1.061 ; 3.136,1.061 3.419,1.343 ; 3.561,0.636 3.843,0.919 ; 6.156,-0.919 6.439,-0.636 ; 6.581,-1.344 6.863,-1.061 ; 8.136,1.061 8.419,1.343 ; 8.561,0.636 8.843,0.919 ; 11.156,-0.919 11.439,-0.636 ; 11.581,-1.344 11.863,-1.061 ; 13.136,1.061 13.419,1.343 ; 13.56,0.636 13.843,0.919 ; 15,-3.3 15.494,-3.424 15.494,-2.424 15,-2.547 ; 15.006,2.824 15.5,2.7 15.5,3.7 15.006,3.576 ; -15,-4 15,-4 15,4.3 -15,4.3 -15,-4
3D body "DG127-5.0-06P-14.stp": height 10.1, standoff -3.7, extent -15,-3.9 15.5,4.2

## DG127_5P0_07 [mm] "Terminal Block Screw, Pitch 5mm, H10mm, DG127-5.0-xxP"
height 10
pads (7):
  round 2 / inner round 2 / far side rect 2.4x3 hole 1.2: 1(-15,0)
  round 2 / inner round 2 / far side oval 2.4x3 hole 1.2: 2(-10,0) 3(-5,0) 4(0,0) 5(5,0) 6(10,0) 7(15,0)
Top Overlay:
  circle w0.2: c-15,0 r1.7
  circle w0.2: c-10,0 r1.7
  circle w0.2: c0,0 r1.7
  circle w0.2: c-5,0 r1.7
  circle w0.2: c10,0 r1.7
  circle w0.2: c5,0 r1.7
  circle w0.2: c15,0 r1.7
  region: -16.7,3.8 -16.7,4.3 -13.3,4.3 -13.3,3.8
  region: -11.7,3.8 -11.7,4.3 -8.3,4.3 -8.3,3.8
  region: -6.7,3.8 -6.7,4.3 -3.3,4.3 -3.3,3.8
  region: -1.7,3.8 -1.7,4.3 1.7,4.3 1.7,3.8
  region: 3.3,3.8 3.3,4.3 6.7,4.3 6.7,3.8
  region: 8.3,3.8 8.3,4.3 11.7,4.3 11.7,3.8
  region: 13.3,3.8 13.3,4.3 16.7,4.3 16.7,3.8
  lines w0.2: -17.5,2.562 17.5,2.562 ; -17.5,3.8 17.5,3.8 ; -16.343,-0.919 -16.06,-0.636 ; -15.919,-1.344 -15.636,-1.061 ; -14.363,1.061 -14.081,1.343 ; -13.939,0.636 -13.656,0.919 ; -11.343,-0.919 -11.061,-0.636 ; -10.919,-1.344 -10.636,-1.061 ; -9.364,1.061 -9.081,1.343 ; -8.939,0.636 -8.656,0.919 ; -6.344,-0.919 -6.061,-0.636 ; -5.919,-1.344 -5.636,-1.061 ; -4.364,1.061 -4.081,1.343 ; -3.939,0.636 -3.657,0.919 ; -1.344,-0.919 -1.061,-0.636 ; -0.919,-1.344 -0.636,-1.061 ; 0.636,1.061 0.919,1.343 ; 1.061,0.636 1.343,0.919 ; 3.656,-0.919 3.939,-0.636 ; 4.081,-1.344 4.363,-1.061 ; 5.636,1.061 5.919,1.343 ; 6.061,0.636 6.343,0.919 ; 8.656,-0.919 8.939,-0.636 ; 9.081,-1.344 9.363,-1.061 ; 10.636,1.061 10.919,1.343 ; 11.06,0.636 11.343,0.919 ; 13.656,-0.919 13.939,-0.636 ; 14.08,-1.344 14.363,-1.061 ; 15.636,1.061 15.919,1.343 ; 16.06,0.636 16.343,0.919 ; 17.5,-3.3 17.994,-3.424 17.994,-2.424 17.5,-2.547 ; 17.506,2.824 18,2.7 18,3.7 17.506,3.576 ; -17.5,-4 -17.5,4.3 17.5,4.3 17.5,-4 -17.5,-4
3D body "DG127-5.0-07P-14.stp": height 10.1, standoff -3.7, extent -17.5,-3.9 18,4.2

## DG127_5P0_08 [mm] "Terminal Block Screw, Pitch 5mm, H10mm, DG127-5.0-xxP"
height 10
pads (8):
  round 2 / inner round 2 / far side rect 2.4x3 hole 1.2: 1(-17.5,0)
  round 2 / inner round 2 / far side oval 2.4x3 hole 1.2: 2(-12.5,0) 3(-7.5,0) 4(-2.5,0) 5(2.5,0) 6(7.5,0) 7(12.5,0) 8(17.5,0)
Top Overlay:
  circle w0.2: c12.5,0 r1.7
  circle w0.2: c17.5,0 r1.7
  circle w0.2: c2.5,0 r1.7
  circle w0.2: c7.5,0 r1.7
  circle w0.2: c-7.5,0 r1.7
  circle w0.2: c-2.5,0 r1.7
  circle w0.2: c-12.5,0 r1.7
  circle w0.2: c-17.5,0 r1.7
  region: -19.2,3.8 -19.2,4.3 -15.8,4.3 -15.8,3.8
  region: -14.2,3.8 -14.2,4.3 -10.8,4.3 -10.8,3.8
  region: -9.2,3.8 -9.2,4.3 -5.8,4.3 -5.8,3.8
  region: -4.2,3.8 -4.2,4.3 -0.8,4.3 -0.8,3.8
  region: 0.8,3.8 0.8,4.3 4.2,4.3 4.2,3.8
  region: 5.8,3.8 5.8,4.3 9.2,4.3 9.2,3.8
  region: 10.8,3.8 10.8,4.3 14.2,4.3 14.2,3.8
  region: 15.8,3.8 15.8,4.3 19.2,4.3 19.2,3.8
  lines w0.2: -20,2.562 20,2.562 ; -20,3.8 20,3.8 ; -18.843,-0.919 -18.56,-0.636 ; -18.419,-1.344 -18.136,-1.061 ; -16.863,1.061 -16.581,1.343 ; -16.439,0.636 -16.156,0.919 ; -13.843,-0.919 -13.561,-0.636 ; -13.419,-1.344 -13.136,-1.061 ; -11.863,1.061 -11.581,1.343 ; -11.439,0.636 -11.156,0.919 ; -8.843,-0.919 -8.561,-0.636 ; -8.419,-1.344 -8.136,-1.061 ; -6.864,1.061 -6.581,1.343 ; -6.439,0.636 -6.156,0.919 ; -3.843,-0.919 -3.561,-0.636 ; -3.419,-1.344 -3.136,-1.061 ; -1.864,1.061 -1.581,1.343 ; -1.439,0.636 -1.156,0.919 ; 1.156,-0.919 1.439,-0.636 ; 1.581,-1.344 1.864,-1.061 ; 3.136,1.061 3.419,1.343 ; 3.561,0.636 3.843,0.919 ; 6.156,-0.919 6.439,-0.636 ; 6.581,-1.344 6.863,-1.061 ; 8.136,1.061 8.419,1.343 ; 8.561,0.636 8.843,0.919 ; 11.156,-0.919 11.439,-0.636 ; 11.581,-1.344 11.863,-1.061 ; 13.136,1.061 13.419,1.343 ; 13.56,0.636 13.843,0.919 ; 16.156,-0.919 16.439,-0.636 ; 16.581,-1.344 16.863,-1.061 ; 18.136,1.061 18.419,1.343 ; 18.56,0.636 18.843,0.919 ; 20,-3.3 20.494,-3.424 20.494,-2.424 20,-2.547 ; 20.006,2.824 20.5,2.7 20.5,3.7 20.006,3.576 ; -20,-4 20,-4 20,4.3 -20,4.3 -20,-4
3D body "DG127-5.0-08P-14.stp": height 10.1, standoff -3.7, extent -20,-3.9 20.5,4.2